# EAGLE library part TDA8560Q (library Audio-Power-amlifier V.2.0)
2x40W Stereo BTL Amplifier
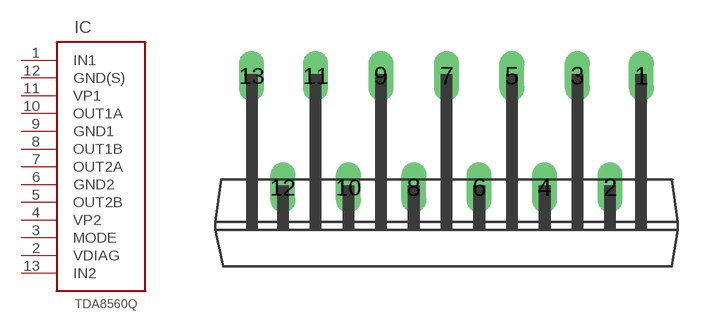
[diagram p3: symbol with the pads of SOT141-6; footprint SOT141-6]

Designator prefix IC

## TDA8560Q  [SOT141-6]
1  IN1
2  VDIAG
3  MODE
4  VP2
5  OUT2B
6  GND2
7  OUT2A
8  OUT1B
9  GND1
10  OUT1A
11  VP1
12  GND(S)
13  IN2

## Footprint SOT141-6 (pad centres in mm)
drill 0.8 long: 1 10.12,5.8; 2 8.5,0; 3 6.8,5.8; 4 5.1,0; 5 3.4,5.8; 6 1.7,0; 7 0,5.8; 8 -1.7,0; 9 -3.4,5.8; 10 -5.1,0; 11 -6.8,5.8; 12 -8.5,0; 13 -10.12,5.8